# Altium footprint library PcbLib1.PcbLib: 264 footprints (part 12 of 17)
Each footprint in its own frame and in the unit in brackets; x right, y up, seen from the top. Pads: shape width x height; smd on the part's side, far side on the other; paste and mask are expansions set on the pad; w line width, h text height; cw(c..) or ccw(c..) is an arc to the next point about the centre after c.
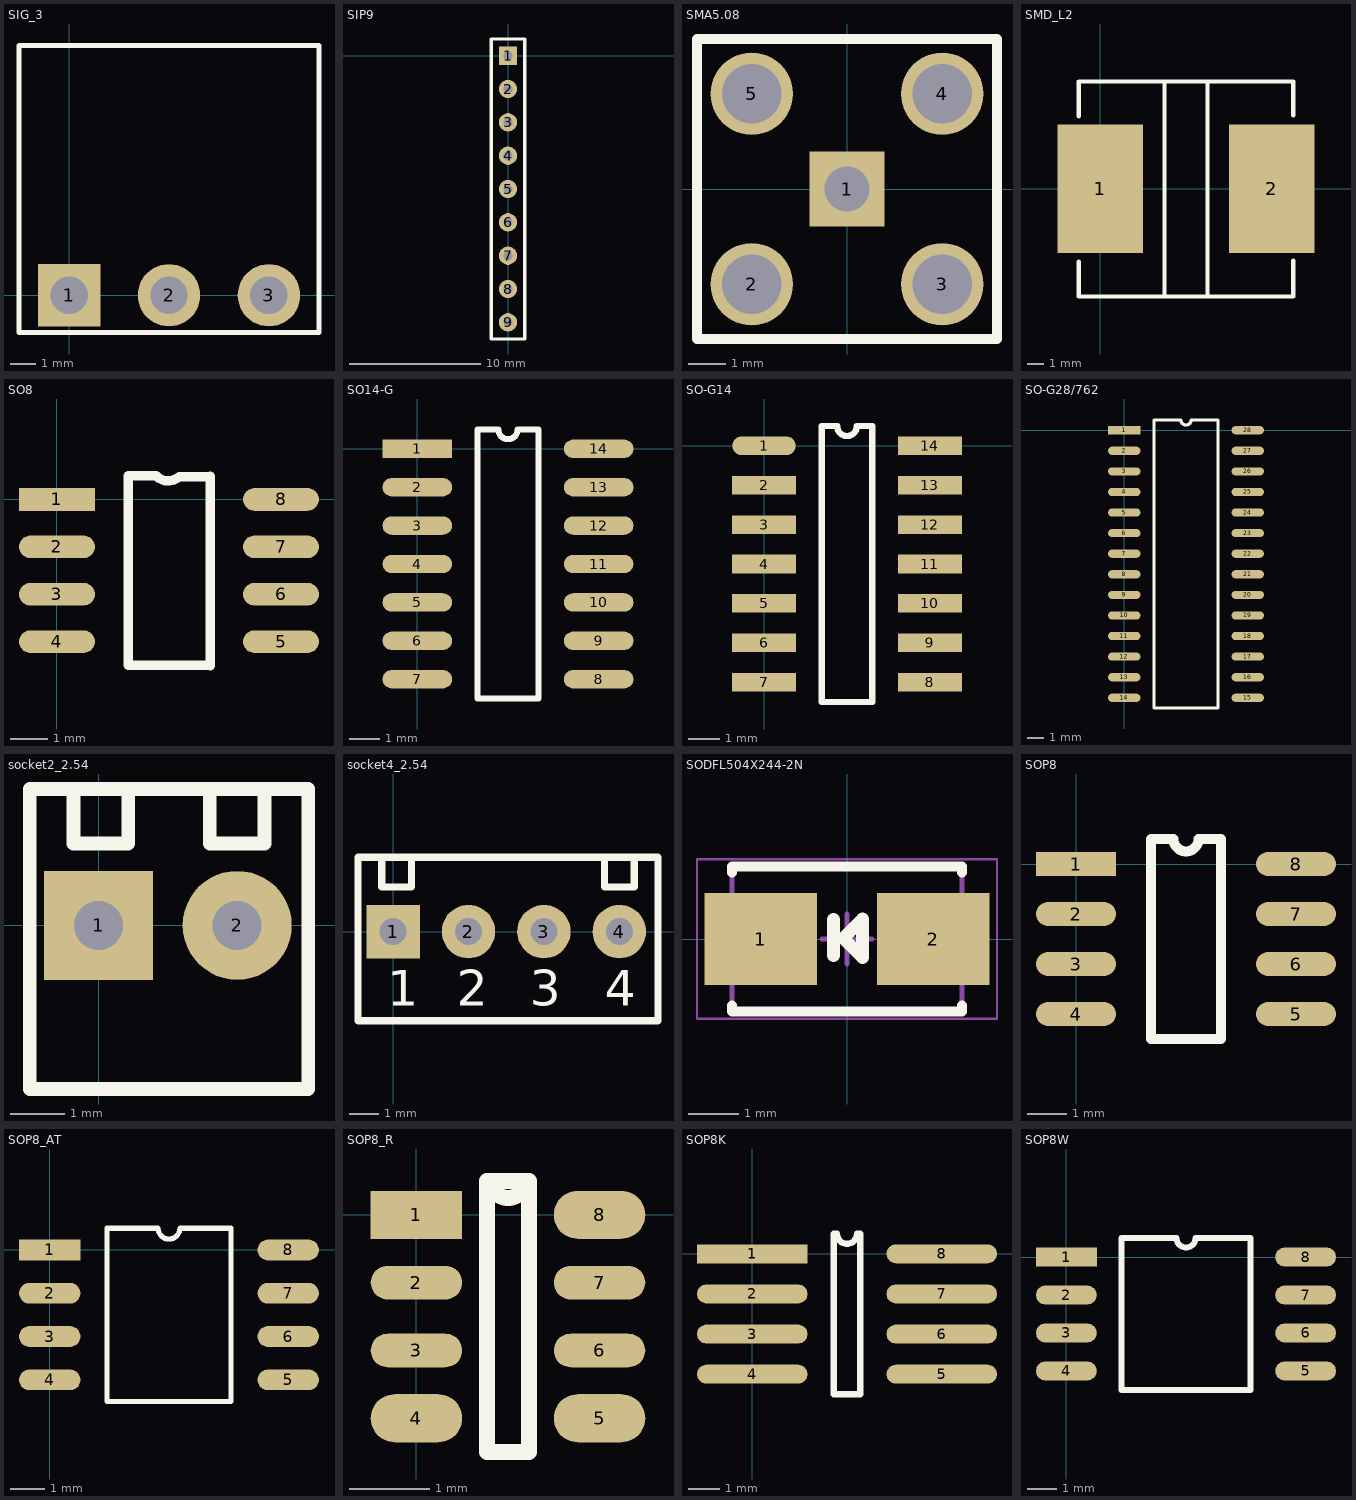
[diagram p11: the footprints below, top view; thin cyan lines are the x and y axes]

## SIG_3 [mm]
pads (3):
  rect 2.5x2.5 hole 1.5: 1(0,0)
  round 2.5 hole 1.5: 2(4,0) 3(8,0)
Top Overlay:
  lines w0.2: -2,-1.5 -2,10 10,10 10,-1.5 -2,-1.5

## SIP9 [mil]
pads (9):
  rect 55x55 hole 28: 1(0,0)
  round 55 hole 28: 2(0,-100) 3(0,-200) 4(0,-300) 5(0,-400) 6(0,-500) 7(0,-600) 8(0,-700) 9(0,-800)
Top Overlay:
  lines w10: -50,-850 -50,50 50,50 50,-850 -50,-850

## SMA5.08 [mm]
pads (5):
  rect 2x2 hole 1.2: 1(0,0)
  round 2.2 hole 1.6: 2(-2.54,-2.54) 3(2.54,-2.54) 4(2.54,2.54) 5(-2.54,2.54)
Top Overlay:
  lines w0.254: -4,-4 -4,4 4,4 4,-4 -4,-4

## SMD_L2 [mm]
pads (2):
  rect 5.08x7.62 smd: 1(0,0) 2(10.16,0)
Top Overlay:
  lines w0.254: -1.27,-4.33 -1.27,-6.4 11.39,-6.4 ; -1.27,4.28 -1.27,6.35 11.43,6.35 11.43,4.34 ; 3.81,-6.39 3.81,6.35 ; 6.35,-6.39 6.35,6.35 ; 11.43,-6.4 11.43,-4.28

## SO8 [mil]
pads (8):
  rect 80x24 smd: 1(0,0)
  oval 80x24 smd: 2(0,-50) 3(0,-100) 4(0,-150) 5(236.22,-150) 6(236.22,-100) 7(236.22,-50) 8(236.22,0)
Top Overlay:
  lines w10: 160.83,-175 75,-175 75,25 104.53,25 ccw(c117.13,36.61) 128.74,24.02 161.02,24.02 ; 161.61,-175.39 161.61,24.61

## SO14-G [mil]
pads (14):
  rect 90.68x24 smd: 1(0,0)
  oval 90.68x24 smd: 2(0,-50) 3(0,-100) 4(0,-150) 5(0,-200) 6(0,-250) 7(0,-300) 8(236.22,-300) 9(236.22,-250) 10(236.22,-200) 11(236.22,-150) 12(236.22,-100) 13(236.22,-50) 14(236.22,0)
Top Overlay:
  lines w7.87: 78.21,-325 78.21,25 105.61,25 ccw(c118.11,25) 130.61,25 158.01,25 158.01,-325 78.21,-325

## SO-G14 [mm]
pads (14):
  oval 2.05x0.6 smd: 1(0,0)
  rect 2.05x0.6 smd: 2(0,-1.27) 3(0,-2.54) 4(0,-3.81) 5(0,-5.08) 6(0,-6.35) 7(0,-7.62) 8(5.35,-7.62) 9(5.35,-6.35) 10(5.35,-5.08) 11(5.35,-3.81) 12(5.35,-2.54) 13(5.35,-1.27) 14(5.35,0)
Top Overlay:
  lines w0.2: 1.86,-8.255 3.49,-8.255 3.49,0.635 2.992,0.635 cw(c2.675,0.635) 2.357,0.635 1.86,0.635 1.86,-8.255

## SO-G28/762 [mm]
pads (28):
  rect 2x0.508 smd: 1(0,0)
  oval 2x0.508 smd: 2(0,-1.27) 3(0,-2.54) 4(0,-3.81) 5(0,-5.08) 6(0,-6.35) 7(0,-7.62) 8(0,-8.89) 9(0,-10.16) 10(0,-11.43) 11(0,-12.7) 12(0,-13.97) 13(0,-15.24) 14(0,-16.51) 15(7.62,-16.51) 16(7.62,-15.24) 17(7.62,-13.97) 18(7.62,-12.7) 19(7.62,-11.43) 20(7.62,-10.16) 21(7.62,-8.89) 22(7.62,-7.62) 23(7.62,-6.35) 24(7.62,-5.08) 25(7.62,-3.81) 26(7.62,-2.54) 27(7.62,-1.27) 28(7.62,0)
Top Overlay:
  lines w0.2: 1.835,-17.145 1.835,0.635 3.492,0.635 ccw(c3.81,0.635) 4.127,0.635 5.785,0.635 5.785,-17.145 1.835,-17.145

## socket2_2.54 [mm]
pads (2):
  rect 2x2 hole 0.9: 1(0,0)
  round 2 hole 0.9: 2(2.54,0)
Top Overlay:
  lines w0.25: -1.26,-0.2 -1.26,1.3 ; -0.46,2.5 -0.46,1.5 0.54,1.5 0.54,2.5 ; 0.64,2.5 2.64,2.5 ; 2.04,2.5 2.04,1.5 3.04,1.5 3.04,2.5 ; -1.26,-3 -1.26,0 -1.26,2.5 3.84,2.5 3.84,0 3.84,-3 -1.26,-3

## socket4_2.54 [mm]
pads (4):
  rect 1.8x1.8 hole 0.9: 1(0,0)
  round 1.8 hole 0.9: 2(2.54,0) 3(5.08,0) 4(7.62,0)
Top Overlay:
  lines w0.25: -1.18,-0.1 -1.18,1.3 ; -0.38,2.5 -0.38,1.5 0.62,1.5 0.62,2.5 ; 7.12,2.5 7.12,1.5 8.12,1.5 8.12,2.5 ; -1.18,-3 8.92,-3 8.92,0 8.92,2.5 -1.18,2.5 -1.18,0 -1.18,-3
  text "4" at 7.12,-2.5 h1.2
  text "3" at 4.6,-2.5 h1.2
  text "2" at 2.14,-2.5 h1.2
  text "1" at -0.2,-2.5 h1.2

## SODFL504X244-2N [mm] "SODFL, 2-Leads, Body 2.70x5.04mm, IPC Medium Density"
height 2.44
pads (2):
  rect 2.25x1.85 smd: 1(-1.725,0) 2(1.725,0)
Top Overlay:
  lines w0.2: -2.3,-1.325 -2.3,-1.45 2.3,-1.45 2.3,-1.325 ; -2.3,1.325 -2.3,1.45 2.3,1.45 2.3,1.325
  lines w0.254: -0.27,-0.33 -0.27,0.39 ; -0.07,0.01 -0.07,0.02 0.31,0.4 0.31,-0.37 -0.07,0.01
Mechanical 13:
  lines w0.1: -2.3,-1.45 2.3,-1.45 2.3,1.45 -2.3,1.45 -2.3,-1.45
Mechanical 15:
  lines w0.05: -3,-1.6 3,-1.6 3,1.6 -3,1.6 -3,-1.6
  lines w0.1: -0.5,0 0.5,0 ; 0,-0.5 0,0.5
3D body: height 2.44, standoff 0, extent -2.3,-1.45 2.3,1.45

## SOP8 [mil]
pads (8):
  rect 80x24 smd: 1(0,0)
  oval 80x24 smd: 2(0,-50) 3(0,-100) 4(0,-150) 5(220,-150) 6(220,-100) 7(220,-50) 8(220,0)
Top Overlay:
  lines w10: 75,-175 75,25 97.5,25 ccw(c110,25) 122.5,25 145,25 145,-175 75,-175

## SOP8_AT [mm]
pads (8):
  rect 1.8x0.61 smd: 1(0,0)
  oval 1.8x0.61 smd: 2(0,-1.27) 3(0,-2.54) 4(0,-3.81) 5(7,-3.81) 6(7,-2.54) 7(7,-1.27) 8(7,0)
Top Overlay:
  lines w0.15: 1.685,-4.445 5.315,-4.445 5.315,0.635 3.818,0.635 cw(c3.5,0.635) 3.183,0.635 1.685,0.635 1.685,-4.445

## SOP8_R [mil]
pads (8):
  rect 45x23.62 smd: 1(0,0)
  oval 45x16.54 smd: 2(0,-33.33) 3(0,-66.67) 6(90,-66.67) 7(90,-33.33)
  oval 45x23.62 smd: 4(0,-100) 5(90,-100) 8(90,0)
Top Overlay:
  lines w7.87: 34.63,-116.67 34.63,16.67 53.33,16.67 cw(c45,16.67) 36.67,16.67 55.37,16.67 55.37,-116.67 34.63,-116.67

## SOP8K [mm]
pads (8):
  rect 3.5x0.6 smd: 1(0,0)
  oval 3.5x0.6 smd: 2(0,-1.27) 3(0,-2.54) 4(0,-3.81) 5(6,-3.81) 6(6,-2.54) 7(6,-1.27) 8(6,0)
Top Overlay:
  lines w0.2: 2.585,-4.445 2.585,0.635 2.682,0.635 ccw(c3,0.635) 3.317,0.635 3.415,0.635 3.415,-4.445 2.585,-4.445

## SOP8W [mil]
pads (8):
  rect 80x25 smd: 1(0,0)
  oval 80x25 smd: 2(0,-50) 3(0,-100) 4(0,-150) 5(314.96,-150) 6(314.96,-100) 7(314.96,-50) 8(314.96,0)
Top Overlay:
  lines w7.87: 72.87,-175 72.87,25 144.98,25 ccw(c157.48,25) 169.98,25 242.09,25 242.09,-175 72.87,-175